# Altium footprint library Diodes.PcbLib: 38 footprints (part 1 of 3)
Each footprint in its own frame and in the unit in brackets; x right, y up, seen from the top. Pads: shape width x height; smd on the part's side, far side on the other; paste and mask are expansions set on the pad; w line width, h text height; cw(c..) or ccw(c..) is an arc to the next point about the centre after c.
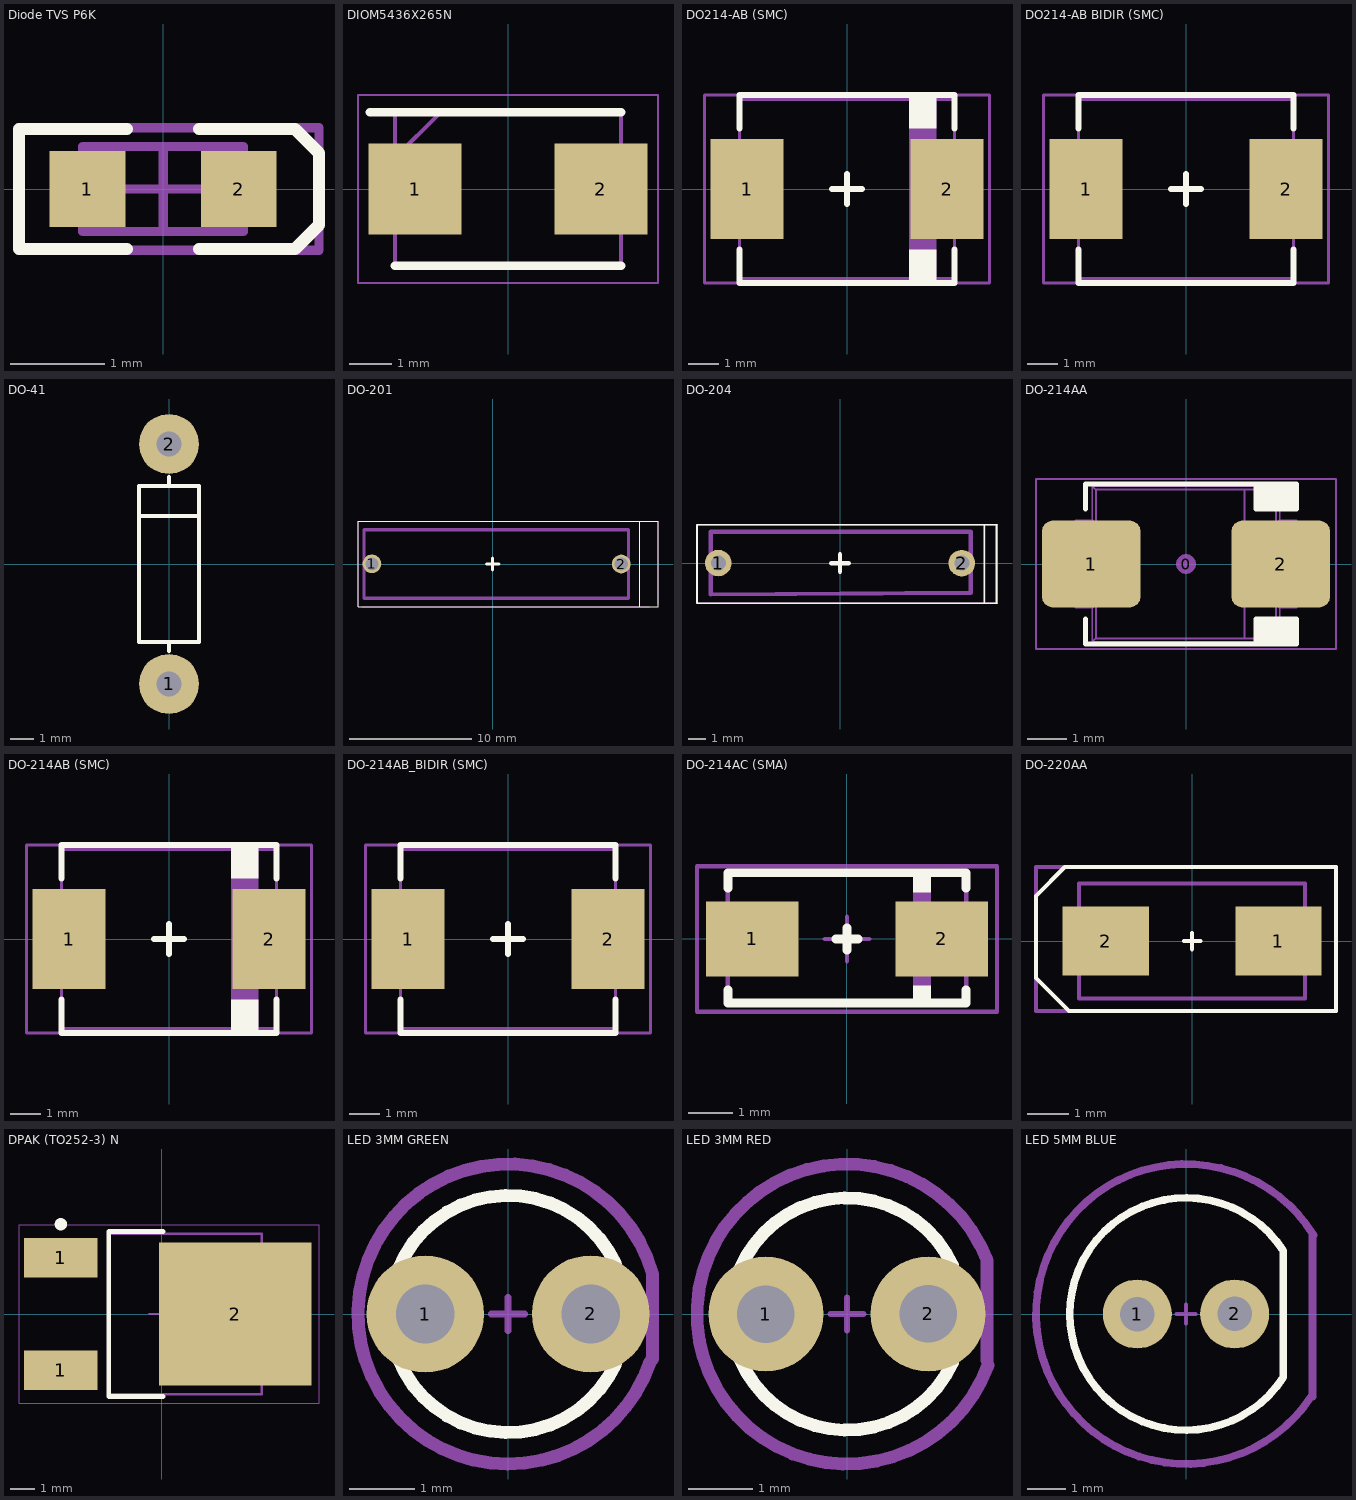
[diagram p0: the footprints below, top view; thin cyan lines are the x and y axes]

## Diode TVS P6K [mm]
pads (2):
  rect 0.8x0.8 smd: 1(-0.8,0) 2(0.8,0)
Top Overlay:
  lines w0.127: -0.381,-0.635 -1.524,-0.635 -1.524,0.635 -0.381,0.635 ; 0.381,-0.635 1.397,-0.635 1.651,-0.381 1.651,0.381 1.397,0.635 0.381,0.635
Mechanical 13:
  lines w0.1: -0.85,-0.45 0.85,-0.45 0.85,0.45 -0.85,0.45 -0.85,-0.45
Mechanical 15:
  lines w0.1: -0.45,0 0.45,0 ; 0,-0.45 0,0.45 ; -1.525,-0.65 1.651,-0.65 1.651,0.65 -1.525,0.65 -1.525,-0.65
3D body "WL-SMCW_0603_LED.stp": height 0.7, standoff 0, extent -0.8,-0.4 0.8,0.4

## DIOM5436X265N [mm]
pads (2):
  rect 2.2x2.15 smd: 1(-2.2,0) 2(2.2,0)
Top Overlay:
  lines w0.2: -3.275,1.812 2.675,1.812 ; -2.675,-1.812 2.675,-1.812
Mechanical 13:
  lines w0.1: -2.675,0.738 -1.6,1.812 ; -2.675,-1.812 2.675,-1.812 2.675,1.812 -2.675,1.812 -2.675,-1.812
Mechanical 15:
  lines w0.05: -3.55,-2.225 3.55,-2.225 3.55,2.225 -3.55,2.225 -3.55,-2.225
3D body "SM6T15CA.stp": height 2.65, standoff 0, extent -2.675,-1.813 2.675,1.813

## DO214-AB (SMC) [mm] "DO214-AB (SMC)"
height 2.1
pads (2):
  rect 2.4x3.3 smd: 1(-3.3,0) 2(3.3,0)
Top Overlay:
  region: 2.95,3.1 2.05,3.1 2.05,2 2.95,2
  rectangle: 2.05,-3.1 2.95,-2
  lines w0.2: -3.55,-2 -3.55,-3.1 3.55,-3.1 3.55,-2 ; -3.55,2 -3.55,3.1 3.55,3.1 3.55,2 ; -0.5,0 0.5,0 ; 0,-0.5 0,0.5
Mechanical 13:
  rectangle: 2.05,-2.95 2.95,2.95
  lines w0.1: -3.55,-1.5 -3.9,-1.5 -3.9,1.5 -3.55,1.5 ; 3.55,-1.5 3.9,-1.5 3.9,1.5 3.55,1.5 ; -3.55,-2.95 -3.55,2.95 3.55,2.95 3.55,-2.95 -3.55,-2.95
Mechanical 15:
  lines w0.1: -0.5,0 0.5,0 ; 0,-0.5 0,0.5 ; -4.7,-3.1 -4.7,3.1 4.7,3.1 4.7,-3.1 -4.7,-3.1
Mechanical 29:
  text ".Designator" at 0,0 h1
3D body "DO-214AB-SMC.STEP": height 2.45, standoff 0, extent -3.9,-2.95 3.9,2.95

## DO214-AB BIDIR (SMC) [mm] "DO214-AB BIDIR (SMC)"
height 2.1
pads (2):
  rect 2.4x3.3 smd: 1(-3.3,0) 2(3.3,0)
Top Overlay:
  lines w0.2: -3.55,-2 -3.55,-3.1 3.55,-3.1 3.55,-2 ; -3.55,2 -3.55,3.1 3.55,3.1 3.55,2 ; -0.5,0 0.5,0 ; 0,-0.5 0,0.5
Mechanical 13:
  lines w0.1: -3.55,-1.5 -3.9,-1.5 -3.9,1.5 -3.55,1.5 ; 3.55,-1.5 3.9,-1.5 3.9,1.5 3.55,1.5 ; -3.55,-2.95 3.55,-2.95 3.55,2.95 -3.55,2.95 -3.55,-2.95
Mechanical 15:
  lines w0.1: -0.5,0 0.5,0 ; 0,-0.5 0,0.5 ; -4.7,-3.1 4.7,-3.1 4.7,3.1 -4.7,3.1 -4.7,-3.1
Mechanical 29:
  text ".Designator" at 0,0 h1
3D body "DO-214AB-SMC_BIDIR.STEP": height 2.45, standoff 0, extent -3.9,-2.95 3.9,2.95

## DO-41 [mil] "Diode, thru-hole"
height 106.3
pads (2):
  round 100 / inner round 0 / far side round 100 hole 42: 1(0,-200) 2(0,200)
Top Overlay:
  lines w6: -50,80 50,80 ; 0,-145 0,-130 ; 0,130 0,145 ; -50,-130 50,-130 50,130 -50,130 -50,-130
3D body "DIODE0_4-DEFAULT.STEP": height 100.5, standoff -100, extent -51,-215 50,215

## DO-201 [mil]
pads (2):
  round 60 hole 42.13: 1(-388.29,0.49) 2(413.39,0)
Top Overlay:
  lines w3.94: 492.13,-137.8 -433.07,-137.8 -433.07,137.8 492.13,137.8 ; 472.44,-137.8 531.5,-137.8 531.5,137.8 472.44,137.8 472.44,-137.8
  lines w10: -19.68,0 19.68,0 ; 0,-19.68 0,19.68
Mechanical 13:
  lines w10: -413.39,-110.24 437.01,-110.24 437.01,110.24 -413.39,110.24 -413.39,-110.24
Mechanical 15:
  lines w3.94: -433.07,-137.8 -433.07,137.8 488.19,137.8 ; -421.26,-137.8 503.94,-137.8 ; 472.44,-137.8 472.44,137.8 ; 531.5,-129.92 531.5,137.8
3D body "DO-201AD.stp": height 224.33, standoff -98.43, extent -413.68,-109.63 437.3,110.62

## DO-204 [mil]
pads (2):
  round 60 hole 33.86: 1(-274.84,0.15) 2(274.84,-0.15)
Top Overlay:
  lines w3.94: 325.79,-90.55 325.79,85.63 ; 353.35,-90.55 353.35,85.63 ; 354.33,-90.55 -322.83,-90.55 -322.83,86.61 354.33,86.61
  lines w10: -19.68,0 19.68,0 ; 0,-19.68 0,19.68
Mechanical 1:
  lines w10: -291.34,-70.87 291.34,-66.93
Mechanical 13:
  lines w10: -291.34,-70.87 -291.34,70.87 295.28,70.87 295.28,-66.93
Mechanical 15:
  lines w3.94: 326.77,-86.61 326.77,86.61 ; -322.83,-90.55 -322.83,86.61 354.33,86.61 354.33,-90.55 -322.83,-90.55
3D body "DO-204AC.stp": height 145.67, standoff -98.43, extent -292.41,-70.6 292.88,70.71

## DO-214AA [mm] "JEDEC DO214 variation AA. SMB"
height 2.65
pads (3):
  round 0.508 on Mech15: 0(0,0)
  rrect25% 2.5x2.2 smd: 1(-2.4,0) 2(2.4,0)
Top Overlay:
  region: 1.778,1.397 1.778,2.032 2.794,2.032 2.794,1.397
  region: 1.778,-1.397 1.778,-2.032 2.794,-2.032 2.794,-1.397
  lines w0.127: -2.54,-1.397 -2.54,-2.032 1.778,-2.032 ; -2.54,1.397 -2.54,2.032 1.778,2.032 ; 1.778,-2.032 1.778,-1.397 2.794,-1.397 2.794,-2.032 1.778,-2.032 ; 1.778,2.032 2.794,2.032 2.794,1.397 1.778,1.397 1.778,2.032
Mechanical 13:
  lines w0.05: -2.375,-1.1 -2.375,-1.973 ; -2.375,1.1 -2.375,1.973 ; 2.375,-1.1 2.375,-1.973 ; 2.375,1.1 2.375,1.973 ; -2.375,-1.973 -2.373,-1.975 2.373,-1.975 2.375,-1.973 ; -2.375,-1.973 -2.285,-1.883 ; -2.375,1.973 -2.373,1.975 2.373,1.975 2.375,1.973 ; -2.375,1.973 -2.285,1.883 ; -2.285,-1.883 1.485,-1.884 ; -2.285,-1.883 -2.285,1.883 ; -2.285,1.883 1.485,1.884 ; 1.485,-1.884 2.285,-1.884 ; 1.485,-1.884 1.485,1.884 ; 1.485,1.884 2.285,1.884 ; 2.285,-1.884 2.285,1.884 ; 2.285,-1.884 2.375,-1.973 ; 2.285,1.884 2.375,1.973 ; -2.8,-1.1 -2.356,-1.1 -2.356,1.1 -2.8,1.1 -2.8,-1.1 ; 2.356,-1.1 2.8,-1.1 2.8,1.1 2.356,1.1 2.356,-1.1
Mechanical 15:
  lines w0.05: -3.8,-2.15 3.8,-2.15 3.8,2.15 -3.8,2.15 -3.8,-2.15
Mechanical 29:
  text ".Designator" at -0.15,-0.15 h1.52
3D body "DO-214AA.STEP": height 2.62, standoff 0, extent -2.8,-1.975 2.8,1.975

## DO-214AB (SMC) [mm] "DO-214AB"
pads (2):
  rect 2.4x3.3 smd: 1(-3.3,0) 2(3.3,0)
Top Overlay:
  region: 2.95,3.1 2.05,3.1 2.05,2 2.95,2
  rectangle: 2.05,-3.1 2.95,-2
  lines w0.2: -3.55,-2 -3.55,-3.1 3.55,-3.1 3.55,-2 ; -3.55,2 -3.55,3.1 3.55,3.1 3.55,2 ; -0.5,0 0.5,0 ; 0,-0.5 0,0.5
Mechanical 13:
  rectangle: 2.05,-2.95 2.95,2.95
  lines w0.1: -3.55,-1.5 -3.9,-1.5 -3.9,1.5 -3.55,1.5 ; 3.55,-1.5 3.9,-1.5 3.9,1.5 3.55,1.5 ; -3.55,-2.95 -3.55,2.95 3.55,2.95 3.55,-2.95 -3.55,-2.95
Mechanical 15:
  lines w0.1: -0.5,0 0.5,0 ; 0,-0.5 0,0.5 ; -4.7,-3.1 -4.7,3.1 4.7,3.1 4.7,-3.1 -4.7,-3.1
Mechanical 29:
  text ".Designator" at -3.2,2 h0.5
3D body "DO-214AB-SMC.STEP": height 2.45, standoff 0, extent -3.9,-2.95 3.9,2.95

## DO-214AB_BIDIR (SMC) [mm] "DO-214AB"
pads (2):
  rect 2.4x3.3 smd: 1(-3.3,0) 2(3.3,0)
Top Overlay:
  lines w0.2: -3.55,-2 -3.55,-3.1 3.55,-3.1 3.55,-2 ; -3.55,2 -3.55,3.1 3.55,3.1 3.55,2 ; -0.5,0 0.5,0 ; 0,-0.5 0,0.5
Mechanical 13:
  lines w0.1: -3.55,-1.5 -3.9,-1.5 -3.9,1.5 -3.55,1.5 ; 3.55,-1.5 3.9,-1.5 3.9,1.5 3.55,1.5 ; -3.55,-2.95 3.55,-2.95 3.55,2.95 -3.55,2.95 -3.55,-2.95
Mechanical 15:
  lines w0.1: -0.5,0 0.5,0 ; 0,-0.5 0,0.5 ; -4.7,-3.1 4.7,-3.1 4.7,3.1 -4.7,3.1 -4.7,-3.1
Mechanical 29:
  text ".Designator" at -3.2,2 h0.5
3D body "DO-214AB-SMC_BIDIR.STEP": height 2.45, standoff 0, extent -3.9,-2.95 3.9,2.95

## DO-214AC (SMA) [mm] "DO-214AC (SMA)"
pads (2):
  rect 2.1x1.7 smd: 1(-2.15,0) 2(2.15,0)
Top Overlay:
  rectangle: 1.5,1.05 1.9,1.5
  rectangle: 1.5,-1.45 1.9,-1.05
  lines w0.2: -2.7,-1.15 -2.7,-1.45 2.7,-1.45 2.7,-1.15 ; -2.7,1.15 -2.7,1.5 2.7,1.5 2.7,1.15 ; -0.25,0 0.25,0 ; 0,-0.25 0,0.25
Mechanical 13:
  rectangle: 1.5,-1.474 1.9,1.475
  lines w0.1: -2.7,-1.474 -2.7,1.475 2.7,1.475 2.7,-1.474 -2.7,-1.474
Mechanical 15:
  lines w0.1: -0.5,0 0.5,0 ; 0,-0.5 0,0.5 ; -3.4,-1.65 -3.4,1.65 3.4,1.65 3.4,-1.65 -3.4,-1.65
Mechanical 29:
  text ".Designator" at -3.2,2 h0.5
3D body "DO-214AC.STEP": height 2.3, standoff 0, extent -2.7,-1.475 2.7,1.475

## DO-220AA [mm]
pads (2):
  rect 2.1x1.67 smd: 1(2.1,0) 2(-2.1,0)
Top Overlay:
  lines w0.1: -0.2,0 0.2,0 ; 0,-0.2 0,0.2 ; -3.8,-0.9 -3.8,1.1 -3.1,1.8 3.5,1.8 3.5,-1.7 -3,-1.7 -3.8,-0.9
Mechanical 1:
  lines w0.1: -2.75,-1.4 2.75,-1.4 2.75,1.4 -2.75,1.4 -2.75,-1.4
Mechanical 15:
  lines w0.1: -3.8,-1.7 -3.8,1.8 3.5,1.8 3.5,-1.7 -3.8,-1.7
3D body "User Library-DIOM5528X26.STEP": height 2.6, standoff 0.03, extent -2.75,-1.4 2.75,1.4

## DPAK (TO252-3) N [mm] "D-PAK, 3-Pads, Body 6,21x6,73mm (max), IPC Medium Density"
height 2.38
pads (3):
  rect 3x1.6 smd: 1(-4.1,-2.285) 1(-4.1,2.285)
  rect 6.2x5.8 smd: 2(3,0)
Top Overlay:
  circle w0.25: c-4.1,3.65 r0.125
  lines w0.2: 0.05,-3.35 -2.15,-3.35 -2.15,3.35 0.05,3.35
Mechanical 13:
  lines w0.1: -2.15,-3.27 -2.15,3.27 4.07,3.27 4.07,-3.27 -2.15,-3.27
Mechanical 15:
  lines w0.05: -5.8,-3.625 -5.8,3.625 6.4,3.625 6.4,-3.625 -5.8,-3.625
  lines w0.1: -0.5,0 0.5,0 ; 0,-0.5 0,0.5
Mechanical 29:
  text ".Designator" at 0,0 h1
3D body "TO252-3.STEP": height 2.39, standoff -0.02, extent -4.861,-3.27 5.078,3.27

## LED 3MM GREEN [mm]
pads (2):
  round 1.8 hole 0.9: 1(-1.27,0) 2(1.27,0)
Top Overlay:
  lines w0.2: 1.651,-0.762 cw(c0,0) 1.651,0.762 1.651,-0.762
Mechanical 15:
  lines w0.1: -0.254,0 0.254,0 ; 0,-0.254 0,0.254
  lines w0.2: 2.182,-0.727 cw(c0,0) 2.216,0.616 2.216,-0.693 2.182,-0.727
Mechanical 29:
  text ".Designator" at -2.159,2.794 h0.5
  text "A" at -1.143,-1.524 h0.5
  text "K" at 0.635,-1.524 h0.5
3D body "LED 3MM GREEN.STEP": height 5.85, standoff -1.95, extent -1.6,-1.6 1.57,1.6

## LED 3MM RED [mm]
pads (2):
  round 1.8 hole 0.9: 1(-1.27,0) 2(1.27,0)
Top Overlay:
  lines w0.2: 1.651,-0.762 cw(c0,0) 1.651,0.762 1.651,-0.762
Mechanical 15:
  lines w0.1: -0.254,0 0.254,0 ; 0,-0.254 0,0.254
  lines w0.2: 2.194,-0.725 2.194,0.838 ccw(c0,0) 2.207,-0.802
Mechanical 29:
  text "K" at 0.635,-1.524 h0.5
  text "A" at -1.143,-1.524 h0.5
  text ".Designator" at -2.159,2.794 h0.5
3D body "LED 3MM RED.STEP": height 5.85, standoff -1.95, extent -1.6,-1.6 1.57,1.6

## LED 5MM BLUE [mm]
pads (2):
  round 1.8 hole 0.9: 1(-1.27,0) 2(1.27,0)
Top Overlay:
  lines w0.2: 2.54,-1.651 cw(c0,0) 2.54,1.651 2.54,-1.651
Mechanical 15:
  lines w0.1: -0.254,0 0.254,0 ; 0,-0.254 0,0.254
  lines w0.2: 3.275,-2.141 cw(c0,0) 3.333,2.051 ; 3.302,-2.159 3.302,2.032
Mechanical 29:
  text ".Designator" at -2.159,2.794 h0.5
  text "A" at -1.143,-1.524 h0.5
  text "K" at 0.635,-1.524 h0.5
3D body "User Library-LEDd5B.STEP": height 9.31, standoff -5.49, extent -2.98,-3.01 2.44,3.01